# Altium footprint library CONN_Terminal.PcbLib: 1 footprints
Each footprint in its own frame and in the unit in brackets; x right, y up, seen from the top. Pads: shape width x height; smd on the part's side, far side on the other; paste and mask are expansions set on the pad; w line width, h text height; cw(c..) or ccw(c..) is an arc to the next point about the centre after c.
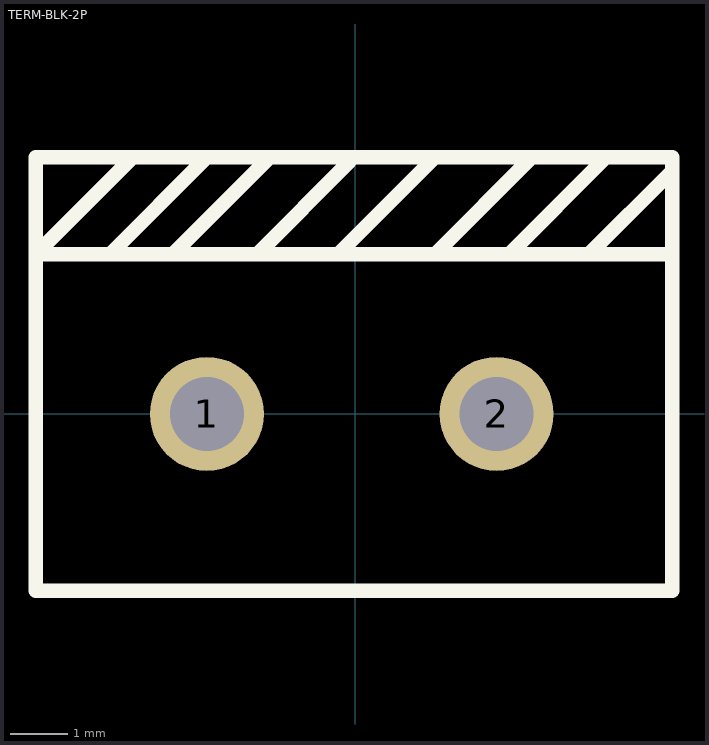
[diagram p0: the footprint, top view; thin cyan lines are the x and y axes]

## TERM-BLK-2P [mm]
pads (2):
  round 2 hole 1.3: 1(-2.6,0) 2(2.48,0)
Top Overlay:
  lines w0.254: -4.6,2.8 -4.5,2.8 -4.3,2.8 -2.6,4.5 ; -3.9,4.5 -5.6,2.8 ; -3.2,2.8 -1.5,4.5 ; -2.1,2.8 -1.72,2.8 -0.1,4.42 ; -0.6,2.8 -0.3,2.8 1.4,4.5 ; 1.4,2.8 3.1,4.5 3.2,4.5 ; 2.7,2.8 4.4,4.5 4.6,4.5 ; 4.1,2.8 5.56,4.26 5.56,4.5 ; 5.56,2.8 -5.6,2.8 ; -5.6,2.8 -5.6,2.8 ; -1.5,4.5 -1.5,4.5 ; 5.56,4.5 5.56,-3.1 -5.6,-3.1 -5.6,4.5 5.56,4.5